# EAGLE library part CH375B-BOARD (library pixel)
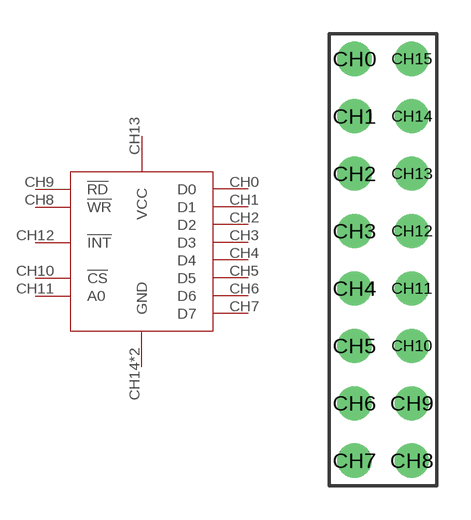
[diagram p8: symbol with the pads of CH375B-BOARD; footprint CH375B-BOARD]

Designator prefix -

## CH375B-BOARD  [CH375B-BOARD]
CH0  D0
CH1  D1
CH2  D2
CH3  D3
CH4  D4
CH5  D5
CH6  D6
CH7  D7
CH8  !WR
CH9  !RD
CH10  !CS
CH11  A0
CH12  !INT
CH13  VCC
CH14  GND
CH15  GND

## Footprint CH375B-BOARD (pad centres in mm)
drill 1: CH0 -1.27,8.89; CH1 -1.27,6.35; CH2 -1.27,3.81; CH3 -1.27,1.27; CH4 -1.27,-1.27; CH5 -1.27,-3.81; CH6 -1.27,-6.35; CH7 -1.27,-8.89; CH8 1.27,-8.89; CH9 1.27,-6.35; CH10 1.27,-3.81; CH11 1.27,-1.27; CH12 1.27,1.27; CH13 1.27,3.81; CH14 1.27,6.35; CH15 1.27,8.89